# Altium footprint library 3.5inch_44pin_QD-TFT3504.PcbLib: 1 footprints
Each footprint in its own frame and in the unit in brackets; x right, y up, seen from the top. Pads: shape width x height; smd on the part's side, far side on the other; paste and mask are expansions set on the pad; w line width, h text height; cw(c..) or ccw(c..) is an arc to the next point about the centre after c.
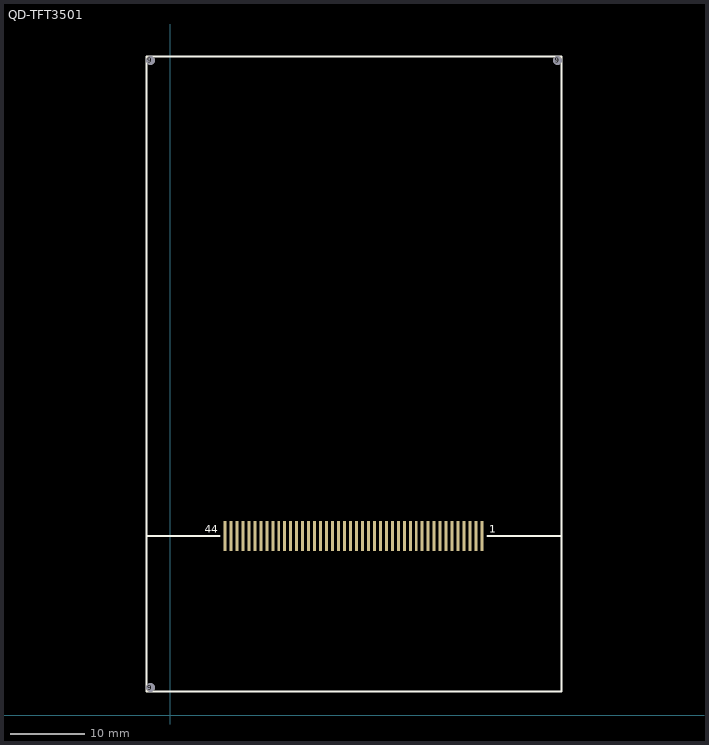
[diagram p0: the footprint, top view; thin cyan lines are the x and y axes]

## QD-TFT3501 [mm] "3.5inch TFT LCD"
pads (48):
  rect 0.4x4 smd: 1(40.905,23.975) 1(41.705,23.975) 3(40.105,23.975) 4(39.305,23.975) 5(38.505,23.975) 6(37.705,23.975) 7(36.905,23.975) 8(36.105,23.975) 9(35.305,23.975) 10(34.505,23.975) 11(33.705,23.975) 12(32.905,23.975) 13(32.105,23.975) 14(31.305,23.975) 15(30.505,23.975) 16(29.705,23.975) 17(28.905,23.975) 18(28.105,23.975) 19(27.305,23.975) 20(26.505,23.975) 21(25.705,23.975) 22(24.905,23.975) 23(24.105,23.975) 24(23.305,23.975) 25(22.505,23.975) 26(21.705,23.975) 27(20.905,23.975) 28(20.105,23.975) 29(19.305,23.975) 30(18.505,23.975) 31(17.705,23.975) 32(16.905,23.975) 33(16.105,23.975) 34(15.305,23.975) 35(14.505,23.975) 36(13.705,23.975) 37(12.905,23.975) 38(12.105,23.975) 39(11.305,23.975) 40(10.505,23.975) 41(9.705,23.975) 42(8.905,23.975) 43(8.105,23.975) 44(7.305,23.975) 44(7.305,23.975)
  round 1.2 hole 1.2 unplated mask+0: 9(-2.675,3.675) 9(-2.675,87.635) 9(51.825,87.635)
Top Overlay:
  lines w0.254: -3.147,23.975 6.604,23.975 ; 42.418,23.975 52.297,23.975 ; -3.175,3.175 52.325,3.175 52.325,88.135 -3.175,88.135 -3.175,3.175
  text "44" at 4.572,24.384 h1.02
  text "1" at 42.672,24.384 h1.02